# Altium footprint library FAB_SA45_DaughterCard.PcbLib: 5 footprints
Each footprint in its own frame and in the unit in brackets; x right, y up, seen from the top. Pads: shape width x height; smd on the part's side, far side on the other; paste and mask are expansions set on the pad; w line width, h text height; cw(c..) or ccw(c..) is an arc to the next point about the centre after c.
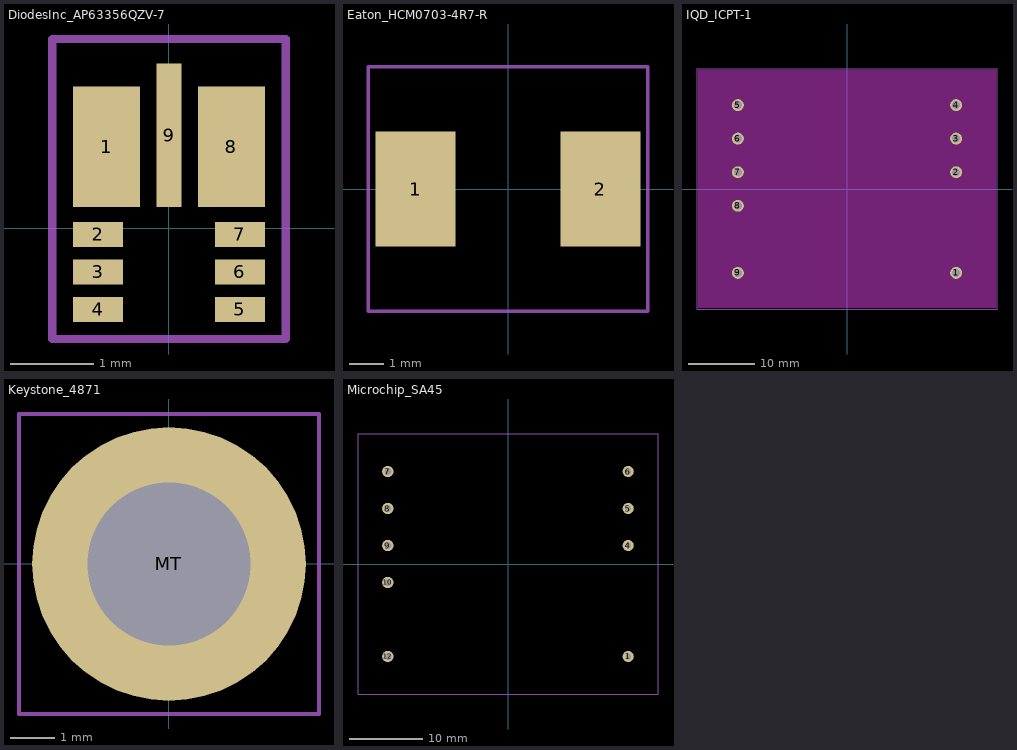
[diagram p0: the footprints below, top view; thin cyan lines are the x and y axes]

## DiodesInc_AP63356QZV-7 [mm]
height 0.9
pads (9):
  rect 0.8x1.45 smd paste+0 mask+0.05: 1(-0.75,0.975) 8(0.75,0.975)
  rect 0.6x0.3 smd paste+0 mask+0.05: 2(-0.85,-0.075) 3(-0.85,-0.525) 4(-0.85,-0.975) 5(0.85,-0.975) 6(0.85,-0.525) 7(0.85,-0.075)
  rect 0.3x1.725 smd paste+0 mask+0.05: 9(0,1.113)
Top Solder:
  rectangle: 0.5,-1.175 1.2,0.225
  rectangle: -1.2,-1.175 -0.5,0.228
Top Designator:
  text ".Designator" at -2.252,-0.157 h1
Top Courtyard:
  lines w0.1: -1.4,-1.331 1.4,-1.331 1.4,2.269 1.3,2.269 -1.4,2.269 -1.4,0.669 -1.4,-1.331
3D body: height 0.85, standoff 0, extent -1,-1.131 1,1.869

## Eaton_HCM0703-4R7-R [mm]
height 3
pads (2):
  rect 2.3x3.3 smd paste+0 mask+0.05: 1(-2.65,0) 2(2.65,0)
Top Designator:
  text ".Designator" at -2.252,-0.157 h1
Top Courtyard:
  lines w0.1: -4,-3.5 4,-3.5 4,3.5 -4,3.5 -4,-0.8 -4,-3.5
3D body "HCM0703-R.STEP": height 3.01, standoff 0.01, extent -3.55,-3.3 3.55,3.3

## IQD_ICPT-1 [mm]
height 14.5
pads (9):
  round 1.8 hole 1.2: 1(16.51,-12.7) 2(16.51,2.54) 3(16.51,7.62) 4(16.51,12.7) 5(-16.51,12.7) 6(-16.51,7.62) 7(-16.51,2.54) 8(-16.51,-2.54) 9(-16.51,-12.7)
Top Layer keep-out:
  region: -22.5,18 -22.5,-18 22.5,-18 22.5,18
Top Designator:
  text ".Designator" at -2.265,-0.239 h1
Top Courtyard:
  lines w0.1: -22.7,-18.2 -22.7,18.2 -11.8,18.2 22.7,18.2 22.7,-18.2 -22.7,-18.2
3D body "ICPT-1.stp": height 14.51, standoff -6.99, extent -22.5,-18 22.5,18

## Keystone_4871 [mm] "Round Standoff Threaded #2-56 Steel 0.063\" (1.60mm) 1/16\""
height 1.57
pads (2):
  round 0 hole 3.7: Hole(0,0)
  round 6.2 smd mask+0.05: MT(0,0)
Top Designator:
  text ".Designator" at -2.252,-0.157 h1
Top Courtyard:
  lines w0.1: -3.4,-3.4 -3.4,-0.8 -3.4,3.4 3.4,3.4 3.4,-3.4 -3.4,-3.4
3D body "keystone-PN4871.STEP": height 1.59, standoff -1.51, extent -2.781,-2.769 2.781,2.769

## Microchip_SA45 [mil]
height 450
pads (9):
  round 60 hole 30: 1(650,-500) 4(650,100) 5(650,300) 6(650,500)
  round 61.5 hole 37.87: 7(-650,500) 8(-650,300) 9(-650,100) 10(-650,-100) 12(-650,-500)
Top Designator:
  text ".Designator" at -89.17,-9.4 h39.37
Top Courtyard:
  lines w3.94: -811.02,-704.72 811.02,-704.72 811.02,704.72 -811.02,704.72 -811.02,-704.72
3D body "090-02984-001.stp": height 453.94, standoff -196.85, extent -800,-695 800,695